# EAGLE library part 74HC595 (library MyLibrary)
74HC595 shift register
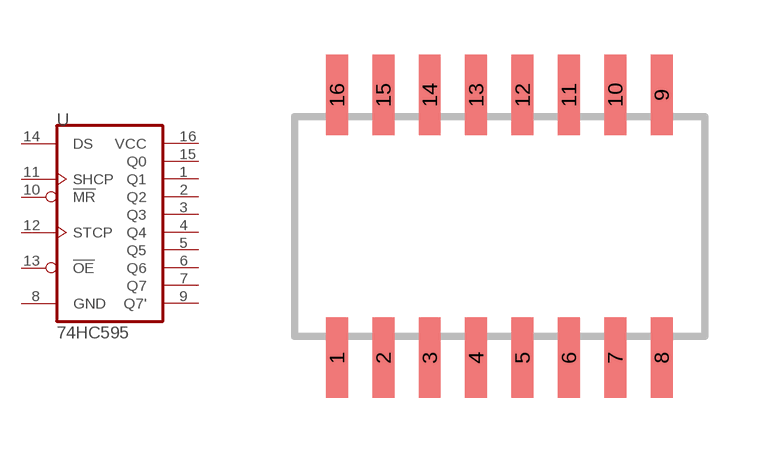
[diagram p3: symbol with the pads of SOP16; footprint SOP16]

Designator prefix U

## 74HC595-SOP16  [SOP16]
1  Q1  hiz
2  Q2  hiz
3  Q3  hiz
4  Q4  hiz
5  Q5  hiz
6  Q6  hiz
7  Q7  hiz
8  GND  pwr
9  Q7'  hiz
10  !MR  in
11  SHCP  in
12  STCP  in
13  !OE  in
14  DS  in
15  Q0  hiz
16  VCC  pwr

## Footprint SOP16 (pad centres in mm)
SMALL OUTLINE PACKAGE
smd 0.6 x 2.2: 1 -4.445,-3.6; 2 -3.175,-3.6; 3 -1.905,-3.6; 4 -0.635,-3.6; 5 0.635,-3.6; 6 1.905,-3.6; 7 3.175,-3.6; 8 4.445,-3.6; 9 4.445,3.6; 10 3.175,3.6; 11 1.905,3.6; 12 0.635,3.6; 13 -0.635,3.6; 14 -1.905,3.6; 15 -3.175,3.6; 16 -4.445,3.6